# Altium footprint library HP48GX2.PcbLib: 19 footprints (part 2 of 2)
Each footprint in its own frame and in the unit in brackets; x right, y up, seen from the top. Pads: shape width x height; smd on the part's side, far side on the other; paste and mask are expansions set on the pad; w line width, h text height; cw(c..) or ccw(c..) is an arc to the next point about the centre after c.
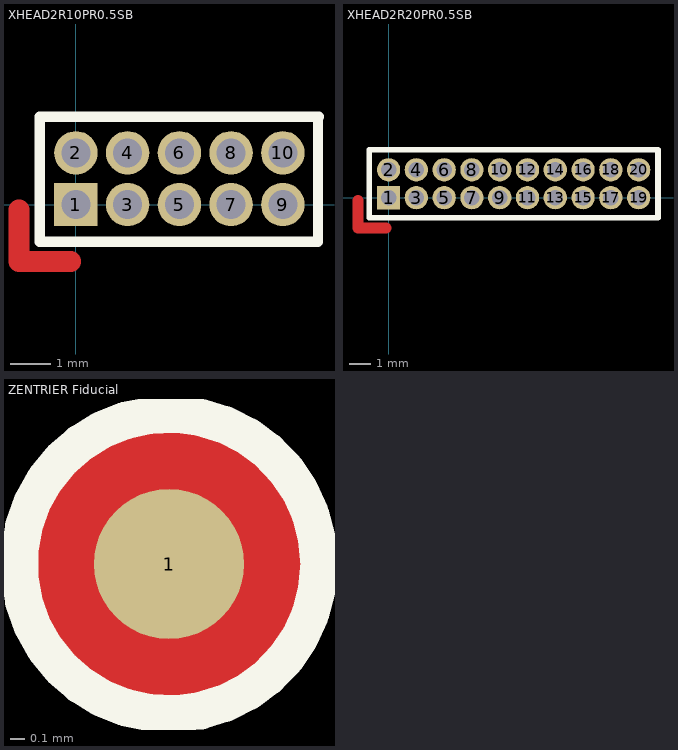
[diagram p1: the footprints below, top view; thin cyan lines are the x and y axes]

## XHEAD2R10PR0.5SB [mil]
pads (10):
  rect 42x42 hole 28: 1(0,0)
  round 42 hole 28: 2(0,50) 3(50,0) 4(50,50) 5(100,0) 6(100,50) 7(150,0) 8(150,50) 9(200,0) 10(200,50)
Top Layer:
  lines w20: -55,-5 -55,-55 -5,-55
  text "1" at -100,-60 h60
Top Overlay:
  lines w10: -34.84,-36.02 -34.84,85 225,85 235,85 233.98,83.98 233.98,-36.02 225.33,-36.02 -34.84,-36.02
Top Solder:
  lines w20: -55,-5 -55,-55 -5,-55
  text "1" at -100,-60 h60

## XHEAD2R20PR0.5SB [mil]
pads (20):
  rect 42x42 hole 28: 1(0,0)
  round 42 hole 28: 2(0,50) 3(50,0) 4(50,50) 5(100,0) 6(100,50) 7(150,0) 8(150,50) 9(200,0) 10(200,50) 11(250,0) 12(250,50) 13(300,0) 14(300,50) 15(350,0) 16(350,50) 17(400,0) 18(400,50) 19(450,0) 20(450,50)
Top Layer:
  lines w20: -55,-5 -55,-55 -5,-55
  text "1" at -100,-60 h60
Top Overlay:
  lines w10: -34.84,-36.02 -34.84,86.02 484.84,86.02 484.84,-36.02 -34.84,-36.02
Top Solder:
  lines w20: -55,-5 -55,-55 -5,-55
  text "1" at -100,-60 h60

## ZENTRIER Fiducial [mil]
pads (1):
  round 40 smd paste+0 mask+20: 1(0,0)
Top Layer:
  pour cut-out: 0,40 3.94,40 11.67,38.46 18.95,35.45 25.5,31.07 31.07,25.5 35.45,18.95 38.46,11.67 40,3.94 40,0 40,-3.94 38.46,-11.67 35.45,-18.95 31.07,-25.5 25.5,-31.07 18.95,-35.45 11.67,-38.46 3.94,-40 0,-40 -3.94,-40 -11.67,-38.46 -18.95,-35.45 -25.5,-31.07 -31.07,-25.5 -35.45,-18.95 -38.46,-11.67 -40,-3.94 -40,0 -40,3.94 -38.46,11.67 -35.45,18.95 -31.07,25.5 -25.5,31.07 -18.95,35.45 -11.67,38.46 -3.94,40
Top Overlay:
  circle w10: c0,0 r40